# Altium footprint library LA-100P.PcbLib: 1 footprints
Each footprint in its own frame and in the unit in brackets; x right, y up, seen from the top. Pads: shape width x height; smd on the part's side, far side on the other; paste and mask are expansions set on the pad; w line width, h text height; cw(c..) or ccw(c..) is an arc to the next point about the centre after c.
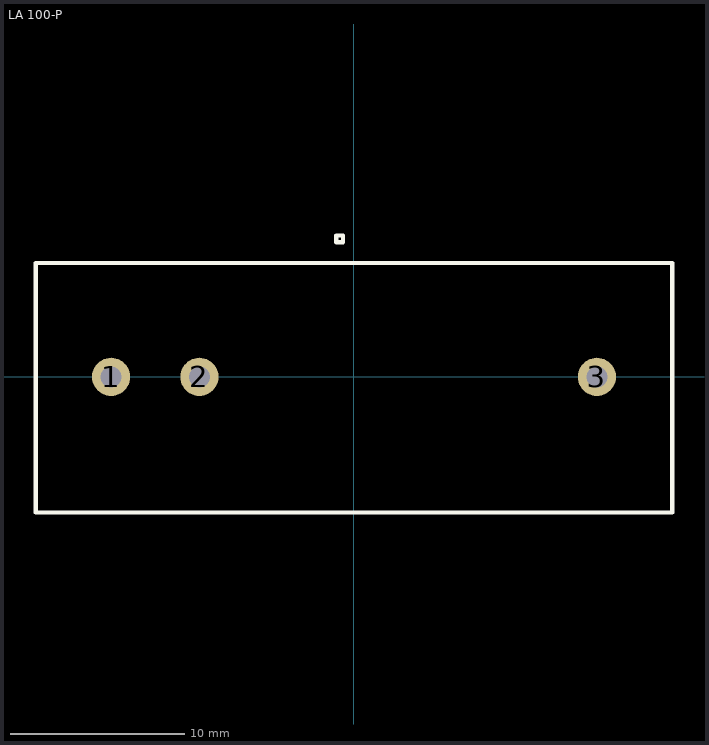
[diagram p0: the footprint, top view; thin cyan lines are the x and y axes]

## LA 100-P [mm]
pads (3):
  round 2.2 hole 1.2: 1(-13.97,0) 2(-8.89,0) 3(13.97,0)
Top Overlay:
  lines w0.254: -18.3,-7.8 -18.3,6.55 18.3,6.55 18.3,-7.8 -18.3,-7.8 ; -1.016,7.747 -0.635,7.747 -0.635,8.128 -1.016,8.128 -1.016,7.747
3D body: height 8.3, standoff 0, extent -18.161,-7.747 18.161,6.477
3D body: height 15.3, standoff 8.3, extent -18.224,-7.747 -6.159,6.477
3D body: height 15.3, standoff 8.3, extent 6.096,-7.747 18.161,6.477
3D body: height 27.2, standoff 15.3, extent -18.161,-7.747 18.161,6.477